# EAGLE library part IS61LV25616AL (library IC)
256K x 16 high speed asynchronous CMOS static ram with 3.3V supply
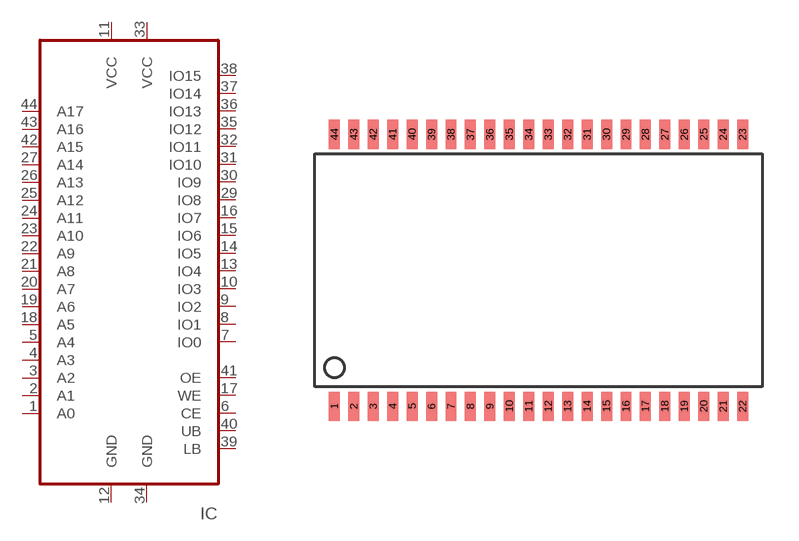
[diagram p35: symbol with the pads of TSOP44-II; footprint TSOP44-II]

Designator prefix IC

## IS61LV25616AL  [TSOP44-II]
1  A0
2  A1
3  A2
4  A3
5  A4
6  CE
7  IO0
8  IO1
9  IO2
10  IO3
11  VCC  pwr
12  GND  pwr
13  IO4
14  IO5
15  IO6
16  IO7
17  WE
18  A5
19  A6
20  A7
21  A8
22  A9
23  A10
24  A11
25  A12
26  A13
27  A14
29  IO8
30  IO9
31  IO10
32  IO11
33  VCC  pwr
34  GND  pwr
35  IO12
36  IO13
37  IO14
38  IO15
39  LB
40  UB
41  OE
42  A15
43  A16
44  A17

## Footprint TSOP44-II (pad centres in mm)
smd 0.45 x 1.2: 1 -8.4,-5.6; 2 -7.6,-5.6; 3 -6.8,-5.6; 4 -6,-5.6; 5 -5.2,-5.6; 6 -4.4,-5.6; 7 -3.6,-5.6; 8 -2.8,-5.6; 9 -2,-5.6; 10 -1.2,-5.6; 11 -0.4,-5.6; 12 0.4,-5.6; 13 1.2,-5.6; 14 2,-5.6; 15 2.8,-5.6; 16 3.6,-5.6; 17 4.4,-5.6; 18 5.2,-5.6; 19 6,-5.6; 20 6.8,-5.6; 21 7.6,-5.6; 22 8.4,-5.6; 23 8.4,5.6; 24 7.6,5.6; 25 6.8,5.6; 26 6,5.6; 27 5.2,5.6; 28 4.4,5.6; 29 3.6,5.6; 30 2.8,5.6; 31 2,5.6; 32 1.2,5.6; 33 0.4,5.6; 34 -0.4,5.6; 35 -1.2,5.6; 36 -2,5.6; 37 -2.8,5.6; 38 -3.6,5.6; 39 -4.4,5.6; 40 -5.2,5.6; 41 -6,5.6; 42 -6.8,5.6; 43 -7.6,5.6; 44 -8.4,5.6